# Altium schematic symbol library CHOKE.SchLib: 1 symbol
Pins are listed as number, name and electrical type; pins without a type are passive.

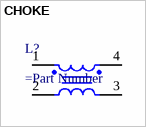
[diagram p0: symbol CHOKE]

## CHOKE
designator L?
=Description
pins: 1, 2, 3, 4